# EAGLE library part SN74LVC2G53* (library DAC)
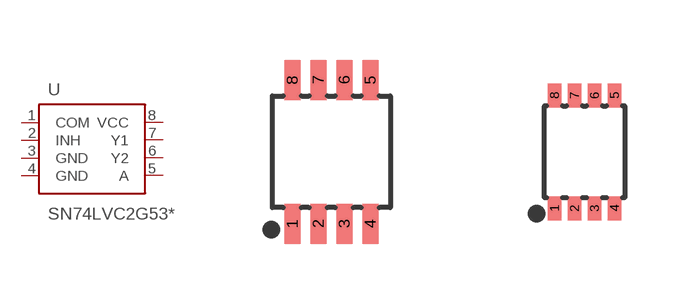
[diagram p24: symbol with the pads of TI-DCT; footprints TI-DCT, TI-DCU]

Designator prefix U

## SN74LVC2G53DCTR  [TI-DCT]
1  COM
2  INH  in
3  GND  pwr
4  GND  pwr
5  A  in
6  Y2
7  Y1
8  VCC  pwr

## SN74LVC2G53DCUR  [TI-DCU]
Pads as for TI-DCT

## Footprint TI-DCT (pad centres in mm)
smd 0.4 x 1: 1 -0.975,-1.8; 2 -0.325,-1.8; 3 0.325,-1.8; 4 0.975,-1.8; 5 0.975,1.8; 6 0.325,1.8; 7 -0.325,1.8; 8 -0.975,1.8

## Footprint TI-DCU (pad centres in mm)
smd 0.33 x 0.6: 1 -0.75,-1.413; 2 -0.25,-1.413; 3 0.25,-1.413; 4 0.75,-1.413; 5 0.75,1.413; 6 0.25,1.413; 7 -0.25,1.413; 8 -0.75,1.413